# EAGLE library part TCAN1044VDDFRQ1 (library TCAN1044VDDFRQ1)
CAN Interface IC Automotive fault-protected high-speed CAN transceiver with standby and 1.8-V I/O support 8-SOT-23-THIN -40 to 125 Source: Datasheet <https://www.ti.com/lit/gpn/TCAN1044V-Q1>
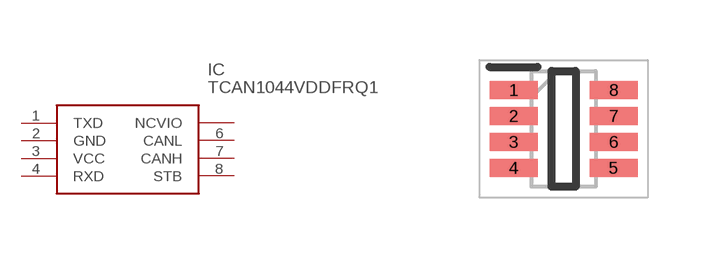
[diagram p0: symbol with the pads of SOT65P280X110-8N; footprint SOT65P280X110-8N]

Designator prefix IC

## TCAN1044VDDFRQ1 (Arrow_Part_Number: TCAN1044VDDFRQ1; Arrow_Price-Stock: https://www.arrow.com/en/products/tcan1044vddfrq1/texas-instruments?region=nac; Description: CAN Interface IC Automotive fault-protected high-speed CAN transceiver with standby and 1.8-V I/O support 8-SOT-23-THIN -40 to 125; Height: 1.1mm; Manufacturer_Name: Texas Instruments; Manufacturer_Part_Number: TCAN1044VDDFRQ1; Mouser_Part_Number: 595-TCAN1044VDDFRQ1; Mouser_Price-Stock: https://www.mouser.co.uk/ProductDetail/Texas-Instruments/TCAN1044VDDFRQ1?qs=vmHwEFxEFR%2Fx%2Fvg%2FkH0KPw%3D%3D)  [SOT65P280X110-8N]
1  TXD
2  GND
3  VCC
4  RXD
5  NC,VIO  ?
6  CANL
7  CANH
8  STB

## Footprint SOT65P280X110-8N (pad centres in mm)
DDF0008A
smd 1.2 x 0.45: 1 -1.25,0.975; 2 -1.25,0.325; 3 -1.25,-0.325; 4 -1.25,-0.975; 5 1.25,-0.975; 6 1.25,-0.325; 7 1.25,0.325; 8 1.25,0.975